# Altium integrated library TPS562201DDCR.IntLib: 1 symbol
Pins are listed as number, name and electrical type; pins without a type are passive.

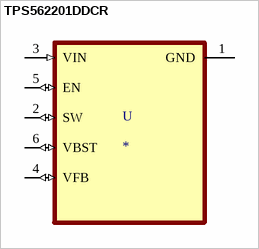
[diagram p0: symbol TPS562201DDCR]

## TPS562201DDCR
designator U
4.5 V to 17 V input, 2 A output, synchronous step-down converter in Eco-mode 6-SOT-23-THIN -40 to 125; MP: TPS562201DDCR; MF: Texas Instruments; Availability: Good; Value: *; Texas_Instruments-Purchase-URL: https://snapeda.com/shop?store=Texas+Instruments&id=1237932; Package: SOT-23-THN-6 Texas Instruments; DigiKey-Purchase-URL: https://snapeda.com/shop?store=DigiKey&id=1237932; Price: None; SnapEDA_Link: https://www.snapeda.com/parts/TPS562201DDCR/Texas%20Instruments/view-part/1237932/?ref=snap; Mouser-Purchase-URL: https://snapeda.com/shop?store=Mouser&id=1237932
footprint SOT95P280X110-6N
pins: 1 GND (power), 2 SW (io), 3 VIN (in), 4 VFB (io), 5 EN (io), 6 VBST (io)